# Altium footprint library Microstrip.PcbLib: 8 footprints
Each footprint in its own frame and in the unit in brackets; x right, y up, seen from the top. Pads: shape width x height; smd on the part's side, far side on the other; paste and mask are expansions set on the pad; w line width, h text height; cw(c..) or ccw(c..) is an arc to the next point about the centre after c.
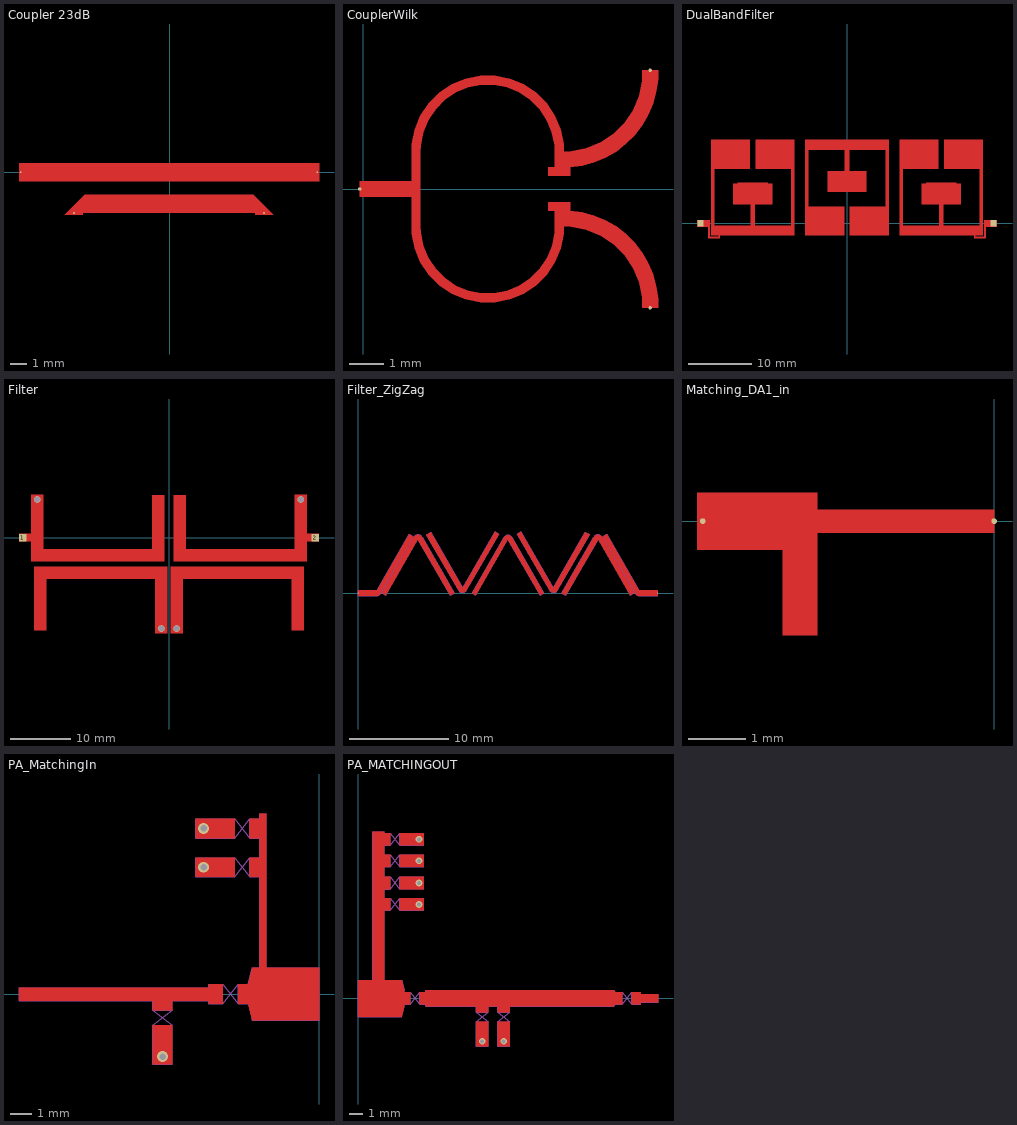
[diagram p0: the footprints below, top view; thin cyan lines are the x and y axes]

## Coupler 23dB [mm] "Copuler, 23 dB, diel RO4003, h=0.5mm"
pads (4):
  round 0.1 smd paste-0.05 mask-0.05: 1(-9.059,0) 2(8.941,0) 3(5.709,-2.467) 4(-5.826,-2.467)
Top Layer:
  region: -9.159,-0.55 -9.159,0.55 9.041,0.55 9.041,-0.55
  region: -5.276,-2.567 -5.276,-2.45 -5.159,-2.45 5.159,-2.45 5.159,-2.567 6.259,-2.567 5.041,-1.35 -5.159,-1.35 -6.376,-2.567

## CouplerWilk [mm] "Wilkinson Coupler diel 7.2GHz, RO4003, h=0.2mm"
pads (3):
  round 0.1 smd paste-0.1 mask-0.1: 1(-0.1,0) 2(8.278,3.425) 3(8.278,-3.425)
Top Layer:
  region: 1.401,-1.074 1.401,-0.226 -0.1,-0.226 -0.1,0.226 1.401,0.226 1.401,1.074 1.401,1.29 1.485,1.713 1.65,2.112 1.89,2.47 2.195,2.775 2.554,3.015 2.952,3.18 3.375,3.264 3.806,3.264 4.229,3.18 4.628,3.015 4.986,2.775 5.291,2.47 5.531,2.112 5.696,1.713 5.78,1.29 5.78,1.074 6.003,1.086 6.44,1.173 6.852,1.344 7.222,1.592 7.538,1.907 7.785,2.278 7.956,2.69 8.042,3.127 8.053,3.35 8.503,3.35 8.503,3.172 8.456,2.818 8.364,2.473 8.227,2.143 8.049,1.834 7.832,1.551 7.579,1.299 7.296,1.081 6.987,0.903 6.657,0.766 6.312,0.674 5.959,0.627 5.78,0.627 5.78,0.625 5.966,0.625 5.966,0.376 5.341,0.376 5.341,0.625 5.529,0.625 5.529,1.074 5.519,1.265 5.445,1.638 5.299,1.989 5.088,2.305 4.819,2.574 4.503,2.786 4.151,2.931 3.778,3.006 3.398,3.006 3.025,2.931 2.673,2.786 2.357,2.574 2.088,2.305 1.877,1.989 1.731,1.638 1.657,1.265 1.648,1.074 1.65,1.074 1.65,-1.074 1.659,-1.265 1.734,-1.638 1.879,-1.989 2.091,-2.305 2.36,-2.574 2.676,-2.786 3.027,-2.931 3.4,-3.006 3.781,-3.006 4.154,-2.931 4.505,-2.786 4.822,-2.574 5.091,-2.305 5.302,-1.989 5.448,-1.638 5.522,-1.265 5.531,-1.074 5.529,-1.074 5.529,-0.625 5.341,-0.625 5.341,-0.376 5.966,-0.376 5.966,-0.625 5.78,-0.625 5.959,-0.625 6.313,-0.672 6.657,-0.765 6.987,-0.901 7.296,-1.08 7.579,-1.298 7.832,-1.55 8.049,-1.834 8.227,-2.143 8.364,-2.473 8.456,-2.818 8.503,-3.172 8.503,-3.35 8.053,-3.35 8.042,-3.127 7.956,-2.69 7.785,-2.279 7.537,-1.908 7.222,-1.593 6.852,-1.345 6.44,-1.175 6.003,-1.088 5.78,-1.077 5.78,-1.074 5.78,-1.29 5.696,-1.713 5.531,-2.112 5.291,-2.47 4.986,-2.775 4.628,-3.015 4.229,-3.18 3.806,-3.264 3.375,-3.264 2.952,-3.18 2.554,-3.015 2.195,-2.775 1.89,-2.47 1.65,-2.112 1.485,-1.713 1.401,-1.29
  region: 8.053,3.35 8.053,3.425 8.503,3.425 8.503,3.35
  region: 8.053,-3.425 8.053,-3.35 8.503,-3.35 8.503,-3.425

## DualBandFilter [mm] "DualBandFilter on coupled resonators"
pads (2):
  rect 1x1 smd paste-0.5 mask-0.5: 1(-23,0) 2(23,0)
Top Layer:
  region: -21.75,-2.3 -21.75,-0.5 -23.55,-0.5 -23.55,0.5 -21.55,0.5 -21.55,-2.1 -20.15,-2.1 -20.15,-1.9 -21.35,-1.9 -21.35,13.1 -15.25,13.1 -15.25,8.6 -20.85,8.6 -20.85,-0.4 -15.15,-0.4 -15.15,3 -17.85,3 -17.85,6.2 -17.15,6.2 -17.15,6.4 -12.45,6.4 -12.45,6.2 -11.75,6.2 -11.75,3 -14.45,3 -14.45,-0.4 -8.75,-0.4 -8.75,8.6 -14.35,8.6 -14.35,13.1 -8.25,13.1 -8.25,-1.9 -19.95,-1.9 -19.95,-2.3
  region: -6.05,2.6 -6.05,11.6 -0.35,11.6 -0.35,8.2 -3.05,8.2 -3.05,5 3.05,5 3.05,8.2 0.35,8.2 0.35,11.6 6.05,11.6 6.05,2.6 0.45,2.6 0.45,-1.9 6.55,-1.9 6.55,13.1 -6.55,13.1 -6.55,-1.9 -0.45,-1.9 -0.45,2.6
  region: 8.75,-0.4 14.45,-0.4 14.45,3 11.75,3 11.75,6.2 12.45,6.2 12.45,6.4 17.15,6.4 17.15,6.2 17.85,6.2 17.85,3 15.15,3 15.15,-0.4 20.85,-0.4 20.85,8.6 15.25,8.6 15.25,13.1 21.35,13.1 21.35,-1.9 20.15,-1.9 20.15,-2.1 21.55,-2.1 21.55,0.5 23.55,0.5 23.55,-0.5 21.75,-0.5 21.75,-2.3 19.95,-2.3 19.95,-1.9 8.25,-1.9 8.25,13.1 14.35,13.1 14.35,8.6 8.75,8.6

## Filter [mm] "Bandpass filter, Fc 1.250GHz, BW 75 MHz, type - four pole microstrip cross coupled resonators, diel RO3003, h=0.5mm"
pads (6):
  rect 1.2x1.2 smd paste-0.6 mask-0.6: 1(-24.15,0) 2(24.15,0)
  round 1.1 hole 1 paste-2539.97 mask-0.55: 3(-21.75,6.3) 3(-1.25,-15) 3(1.25,-15) 3(21.75,6.3)
Top Layer:
  region: 0.75,-3.9 0.75,7 2.75,7 2.75,-1.9 20.75,-1.9 20.75,7.1 22.75,7.1 22.75,0.6 24.75,0.6 24.75,-0.6 22.75,-0.6 22.75,-3.9
  region: 0.25,-15.8 0.25,-4.8 22.25,-4.8 22.25,-15.3 20.25,-15.3 20.25,-6.8 2.25,-6.8 2.25,-15.8
  region: -22.25,-15.3 -22.25,-4.8 -0.25,-4.8 -0.25,-15.8 -2.25,-15.8 -2.25,-6.8 -20.25,-6.8 -20.25,-15.3
  region: -24.75,-0.6 -24.75,0.6 -22.75,0.6 -22.75,7.1 -20.75,7.1 -20.75,-1.9 -2.75,-1.9 -2.75,7 -0.75,7 -0.75,-3.9 -22.75,-3.9 -22.75,-0.6

## Filter_ZigZag [mm]
pads (2):
  round 0.1 smd paste-2539.97 mask+0.102: 1(0,0) 2(30,0)
Top Layer:
  region: 0,-0.29 0,0.29 1.866,0.29 5.091,5.876 5.481,5.651 2.256,0.065 2.235,-0.001 2.16,-0.118 2.057,-0.211 1.934,-0.275 1.866,-0.29
  region: 2.342,0.015 2.732,-0.21 5.957,5.376 9.2,-0.24 9.616,0.001 6.372,5.616 6.341,5.669 6.253,5.754 6.145,5.813 6.027,5.843 5.904,5.84 5.787,5.806 5.682,5.743 5.597,5.655 5.567,5.601
  region: 19.172,0.291 15.921,5.92 16.277,6.125 19.527,0.497 22.769,6.113 23.185,5.873 19.943,0.256 19.911,0.207 19.825,0.128 19.721,0.074 19.606,0.049 19.489,0.054 19.377,0.09 19.278,0.153 19.199,0.239
  region: 20.384,0.002 20.8,-0.239 24.042,5.378 27.268,-0.208 27.658,0.018 24.432,5.603 24.402,5.657 24.317,5.745 24.212,5.808 24.095,5.842 23.972,5.844 23.853,5.815 23.746,5.756 23.658,5.671 23.626,5.618 23.627,5.618
  region: 27.744,0.068 24.518,5.653 24.908,5.878 28.134,0.293 30,0.293 30,-0.287 28.134,-0.287 28.066,-0.272 27.943,-0.209 27.84,-0.115 27.765,0.001
  region: 11.395,-0.037 11.75,-0.242 15,5.388 18.25,-0.241 18.605,-0.036 15.354,5.593 15.327,5.64 15.251,5.716 15.158,5.77 15.053,5.798 14.945,5.798 14.841,5.77 14.748,5.716 14.671,5.639 14.644,5.593
  region: 10.057,0.256 6.814,5.871 7.23,6.112 10.473,0.496 13.722,6.125 14.077,5.92 10.828,0.29 10.801,0.238 10.722,0.152 10.623,0.089 10.511,0.053 10.394,0.048 10.28,0.073 10.175,0.127 10.089,0.206
Top DXF (Mech21):
  lines w0.05: 6.372,5.616 ccw(c5.974,5.376) 5.567,5.601 5.567,5.601 2.342,0.015 2.732,-0.21 5.957,5.376 9.2,-0.24 9.616,0.001 6.372,5.616 ; 6.372,5.616 6.372,5.616 ; 10.057,0.256 ccw(c10.432,0.496) 10.828,0.29 ; 10.057,0.255 6.814,5.871 7.23,6.112 10.473,0.496 13.722,6.125 14.077,5.92 10.828,0.29 ; 10.057,0.255 10.057,0.256 ; 10.828,0.29 10.828,0.29 ; 14.644,5.593 cw(c14.999,5.387) 15.354,5.593 ; 14.644,5.593 14.644,5.593 ; 14.644,5.593 11.395,-0.037 11.75,-0.242 15,5.388 18.25,-0.241 18.605,-0.036 15.355,5.593 ; 15.354,5.593 15.355,5.593 ; 19.172,0.291 ccw(c19.568,0.497) 19.943,0.257 ; 19.172,0.291 15.921,5.92 16.277,6.125 19.527,0.497 22.769,6.113 23.185,5.873 19.943,0.256 ; 19.172,0.291 19.172,0.291 ; 19.943,0.256 19.943,0.256 ; 27.744,0.068 ccw(c28.247,0.228) 28.134,-0.287 ; 27.744,0.068 24.518,5.653 24.908,5.878 28.134,0.293 30,0.293 30,-0.287 28.134,-0.287 ; 27.744,0.068 27.744,0.068 ; 28.134,-0.287 28.134,-0.287 ; 0,-0.29 1.866,-0.29 ccw(c1.754,0.225) 2.256,0.065 5.481,5.651 5.091,5.876 1.866,0.29 0,0.29 0,-0.29 ; 20.384,0.002 20.8,-0.239 24.042,5.378 27.268,-0.208 27.658,0.018 24.432,5.603 ccw(c24.025,5.378) 23.627,5.618 23.626,5.618 20.384,0.002

## Matching_DA1_in [mm]
pads (2):
  round 0.1 smd paste-0.05 mask-0.05: 1(-5.1,0) 2(0,0)
Top Layer:
  region: -5.2,0.5 -5.2,-0.5 -3.7,-0.5 -3.7,-2 -3.1,-2 -3.1,-0.2 0,-0.2 0,0.2 -3.1,0.2 -3.1,0.5

## PA_MatchingIn [mm] "Геометрия входной согласующей цепи"
via -5.35,5.875 diameter 0.5 hole 0.3
via -5.35,7.675 diameter 0.5 hole 0.3
via -7.25,-2.9 diameter 0.5 hole 0.3
Top Layer:
  region: -5.7,6.325 -5.7,5.425 -3.9,5.425 -3.9,6.325
  region: -5.7,8.125 -5.7,7.225 -3.9,7.225 -3.9,8.125
  region: -3.75,0.45 -3.277,0.45 -3.1,1.225 -2.75,1.225 -2.75,5.425 -3.2,5.425 -3.2,6.325 -2.75,6.325 -2.75,7.225 -3.2,7.225 -3.2,8.125 -2.75,8.125 -2.75,8.35 -2.45,8.35 -2.45,1.225 0,1.225 0,-1.225 -3.1,-1.225 -3.277,-0.45 -3.75,-0.45
  region: -7.7,-3.25 -6.8,-3.25 -6.8,-1.45 -7.7,-1.45
  region: -13.9,0.3 -5.1,0.3 -5.1,0.45 -4.45,0.45 -4.45,-0.45 -5.1,-0.45 -5.1,-0.3 -6.8,-0.3 -6.8,-0.75 -7.7,-0.75 -7.7,-0.3 -13.9,-0.3
Top DXF (Mech21):
  circle w0.05: c-7.25,-2.9 r0.2
  circle w0.05: c-5.35,7.675 r0.2
  circle w0.05: c-5.35,5.875 r0.2
  lines w0.05: -7.7,-1.9 -6.8,-1.9 -6.8,-3.25 -7.7,-3.25 -7.7,-2.1 ; -4.35,6.325 -4.35,5.425 -5.7,5.425 -5.7,6.325 -4.55,6.325 ; -4.35,8.125 -4.35,7.225 -5.7,7.225 -5.7,8.125 -4.55,8.125 ; -2.75,8.025 -2.45,8.025 ; -12.4,-0.3 -12.2,-0.3 ; -12.4,-0.3 -13.9,-0.3 -13.9,0.3 -12.4,0.3 ; -12.4,-0.3 -12.4,0.3 ; -12.4,-0.3 -12.4,0.3 ; -12.4,0.3 -12.2,0.3 ; -12.2,-0.3 -12.2,0.3 ; -12.2,-0.3 -7.6,-0.3 ; -12.2,-0.3 -12.2,0.3 ; -12.2,0.3 -7.6,0.3 ; -7.7,-2.1 -6.8,-2.1 -6.8,-1.45 ; -7.7,-2.1 -7.7,-1.45 ; -7.7,-1.45 -6.8,-0.75 ; -7.7,-1.45 -6.8,-1.45 ; -7.7,-0.75 -6.8,-1.45 ; -7.7,-0.75 -6.8,-0.75 ; -7.7,-0.75 -7.7,-0.1 -6.8,-0.1 -6.8,-0.75 ; -7.6,-0.3 -6.9,-0.3 ; -7.6,-0.3 -6.9,-0.3 ; -7.6,-0.3 -7.6,0.3 ; -7.6,-0.3 -7.6,0.3 ; -7.6,0.3 -6.9,0.3 ; -7.6,0.3 -6.9,0.3 ; -6.9,-0.3 -4.9,-0.3 -4.9,0.3 -6.9,0.3 ; -6.9,-0.3 -6.9,0.3 ; -6.9,-0.3 -6.9,0.3 ; -4.55,6.325 -4.55,5.425 -3.9,5.425 ; -4.55,6.325 -3.9,6.325 ; -4.55,8.125 -4.55,7.225 -3.9,7.225 ; -4.55,8.125 -3.9,8.125 ; -4.45,-0.45 -3.75,0.45 ; -4.45,-0.45 -4.45,0.45 ; -4.45,-0.45 -5.1,-0.45 -5.1,0.45 -4.45,0.45 ; -4.45,0.45 -3.75,-0.45 ; -3.9,5.425 -3.2,6.325 ; -3.9,5.425 -3.9,6.325 ; -3.9,6.325 -3.2,5.425 ; -3.9,7.225 -3.2,8.125 ; -3.9,7.225 -3.9,8.125 ; -3.9,8.125 -3.2,7.225 ; -3.75,-0.45 -3.1,-0.45 -3.1,0.45 -3.75,0.45 ; -3.75,-0.45 -3.75,0.45 ; -3.2,5.425 -3.2,6.325 ; -3.2,5.425 -2.55,5.425 -2.55,6.325 -3.2,6.325 ; -3.2,7.225 -3.2,8.125 ; -3.2,7.225 -2.55,7.225 -2.55,8.125 -3.2,8.125 ; -3.1,-1.225 -3.1,1.225 ; -3.1,-1.225 -3.1,1.225 ; -3.1,-1.225 -3.3,-0.35 -3.3,0.35 -3.1,1.225 ; -3.1,-1.225 -2.75,-1.225 -2.45,-1.225 0,-1.225 0,1.225 -2.45,1.225 -2.45,5.525 ; -3.1,1.225 -2.75,1.225 -2.75,5.525 ; -2.75,5.525 -2.45,5.525 ; -2.75,5.525 -2.75,6.225 ; -2.75,5.525 -2.45,5.525 ; -2.75,6.225 -2.75,7.325 ; -2.75,6.225 -2.45,6.225 ; -2.75,6.225 -2.45,6.225 ; -2.75,7.325 -2.45,7.325 ; -2.75,7.325 -2.75,8.35 -2.45,8.35 -2.45,7.325 ; -2.75,7.325 -2.45,7.325 ; -2.45,5.525 -2.45,6.225 ; -2.45,6.225 -2.45,7.325

## PA_MATCHINGOUT [mm] "Геометрия выходной согласующей цепи"
via 4.55,10.25 diameter 0.5 hole 0.3
via 4.55,11.85 diameter 0.5 hole 0.3
via 4.55,7 diameter 0.5 hole 0.3
via 4.55,8.6 diameter 0.5 hole 0.3
via 9.25,-3.2 diameter 0.5 hole 0.3
via 10.85,-3.2 diameter 0.5 hole 0.3
Top Layer:
  region: 0,1.35 1.1,1.35 1.1,12.4 1.95,12.4 1.95,12.3 2.4,12.3 2.4,11.4 1.95,11.4 1.95,10.7 2.4,10.7 2.4,9.8 1.95,9.8 1.95,9.05 2.4,9.05 2.4,8.15 1.95,8.15 1.95,7.45 2.4,7.45 2.4,6.55 1.95,6.55 1.95,1.35 3.25,1.35 3.45,0.6 3.45,0.45 3.9,0.45 3.9,-0.45 3.45,-0.45 3.45,-0.6 3.25,-1.35 0,-1.35
  region: 3.1,9.8 3.1,10.7 4.9,10.7 4.9,9.8
  region: 3.1,11.4 3.1,12.3 4.9,12.3 4.9,11.4
  region: 3.1,6.55 3.1,7.45 4.9,7.45 4.9,6.55
  region: 3.1,8.15 3.1,9.05 4.9,9.05 4.9,8.15
  region: 8.8,-1.75 9.7,-1.75 9.7,-3.55 8.8,-3.55
  region: 20.4,0.45 21.05,0.45 21.05,0.3 22.35,0.3 22.35,-0.3 21.05,-0.3 21.05,-0.45 20.4,-0.45
  region: 4.6,0.45 5.05,0.45 5.05,0.6 19.05,0.6 19.17,0.45 19.7,0.45 19.7,-0.45 19.17,-0.45 19.05,-0.6 11.3,-0.6 11.3,-1.05 10.4,-1.05 10.4,-0.6 9.7,-0.6 9.7,-1.05 8.8,-1.05 8.8,-0.6 5.05,-0.6 5.05,-0.45 4.6,-0.45
  region: 10.4,-1.75 11.3,-1.75 11.3,-3.55 10.4,-3.55
Top DXF (Mech21):
  drawing of 186 lines, arcs and shapes, not listed